# Altium schematic symbol library Placeholder.SchLib: 1 symbol
Pins are listed as number, name and electrical type; pins without a type are passive.

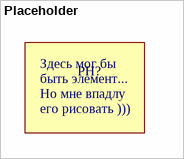
[diagram p0: symbol Placeholder]

## Placeholder
designator PH?
text: Здесь мог бы; быть элемент...; Но мне впадлу; его рисовать )))